# Altium footprint library 12_way.PcbLib: 10 footprints
Each footprint in its own frame and in the unit in brackets; x right, y up, seen from the top. Pads: shape width x height; smd on the part's side, far side on the other; paste and mask are expansions set on the pad; w line width, h text height; cw(c..) or ccw(c..) is an arc to the next point about the centre after c.
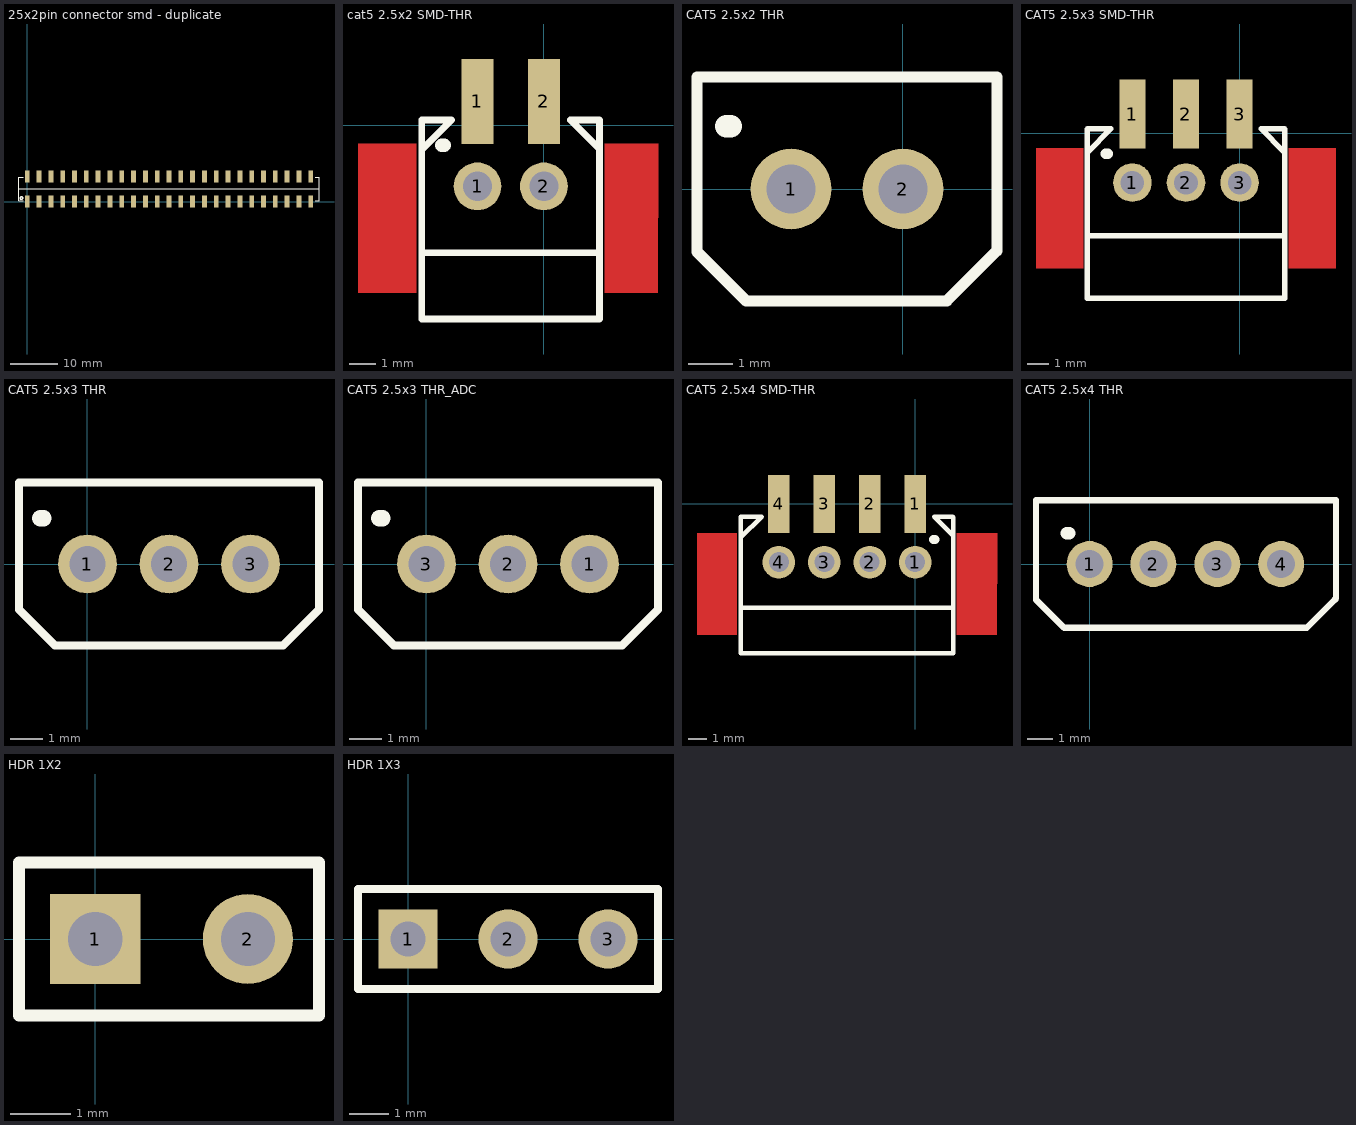
[diagram p0: the footprints below, top view; thin cyan lines are the x and y axes]

## 25x2pin connector smd - duplicate [mm]
height 7.5
pads (50):
  rect 1.02x2.5 smd: 1(0,0) 2(0,5.3) 3(2.5,0) 4(2.5,5.3) 5(5,0) 6(5,5.3) 7(7.5,0) 8(7.5,5.3) 9(10,0) 10(10,5.3) 11(12.5,0) 12(12.5,5.3) 13(15,0) 14(15,5.3) 15(17.5,0) 16(17.5,5.3) 17(20,0) 18(20,5.3) 19(22.5,0) 20(22.5,5.3) 21(25,0) 22(25,5.3) 23(27.5,0) 24(27.5,5.3) 25(30,0) 26(30,5.3) 27(32.5,0) 28(32.5,5.3) 29(35,0) 30(35,5.3) 31(37.5,0) 32(37.5,5.3) 33(40,0) 34(40,5.3) 35(42.5,0) 36(42.5,5.3) 37(45,0) 38(45,5.3) 39(47.5,0) 40(47.5,5.3) 41(50,0) 42(50,5.3) 43(52.5,0) 44(52.5,5.3) 45(55,0) 46(55,5.3) 47(57.5,0) 48(57.5,5.3) 49(60,0) 50(60,5.3)
Top Overlay:
  circle w0.3: c-1.25,0.725 r0.269
  lines w0.254: -1.75,3.8 -1.75,2.65 61.75,2.65 ; -0.9,0.15 -1.75,0.15 -1.75,1.25 -1.75,4.05 -1.75,5.15 -0.9,5.15 ; 60.95,0.15 61.75,0.15 61.75,1.25 61.75,4.05 61.75,5.15 60.95,5.15
3D body: height 7.5, standoff 0, extent -1.8,0.1 61.8,5.2

## cat5 2.5x2 SMD-THR [mm] "2pads"
pads (4):
  rect 1.2x3.2 smd: 1(-2.5,0.9) 2(0,0.9)
  round 1.8 hole 1.1: 1(-2.498,-2.3) 2(0.002,-2.3)
Top Layer:
  region: -7,-6.3 -4.8,-6.3 -4.8,-0.7 -7,-0.7
  region: 2.3,-6.3 4.3,-6.3 4.3,-0.7 2.3,-0.7
Top Overlay:
  lines w0.254: 2.1,-4.8 2.1,-4 ; 2.1,0.2 2.1,0.2 ; 2.1,0.2 0.998,0.2 2.098,-0.9 2.098,-4.8 -4.602,-4.8 -4.602,-0.925 -3.477,0.2 -4.6,0.2 -4.6,-7.3 2.1,-7.3 2.1,0.2
  lines w0.5: -3.85,-0.75 -3.75,-0.75
3D body: height 5.01, standoff -0.69, extent -6.575,-7.45 4.025,2.05

## CAT5 2.5x2 THR [mm]
height 7.5
pads (2):
  round 1.8 hole 1.1: 1(-2.5,0) 2(0,0)
Top Overlay:
  lines w0.254: -4.6,-1.4 -4.6,2.5 2.1,2.5 2.1,-1.375 0.975,-2.5 -3.5,-2.5 -4.6,-1.4
  lines w0.5: -3.95,1.4 -3.85,1.4
3D body: height 7.51, standoff -2.09, extent -4.602,-2.5 2.102,2.5

## CAT5 2.5x3 SMD-THR [mm] "3pads"
pads (6):
  round 1.8 hole 1.1: 1(-5,-2.3) 2(-2.5,-2.3) 3(0,-2.3)
  rect 1.2x3.2 smd: 1(-5,0.9) 2(-2.5,0.9) 3(0,0.9)
Top Layer:
  region: -9.5,-6.3 -7.3,-6.3 -7.3,-6.2 -7.3,-0.7 -9.5,-0.7
  region: 2.3,-6.3 4.5,-6.3 4.5,-0.7 2.3,-0.7
Top Overlay:
  lines w0.254: 2.081,-0.869 1,0.213 2.087,0.213 2.1,0.2 2.1,-7.7 -7.1,-7.7 -7.1,-0.6 -7.1,0.2 -7.087,0.213 -6,0.213 -7.1,-0.887 -7.1,-1.287 -7.1,-4.787 2.1,-4.787 2.1,-2.287 2.1,-0.887
  lines w0.5: -6.25,-0.95 -6.15,-0.95
3D body: height 5.01, standoff -0.69, extent -9.075,-7.475 4.025,2.025

## CAT5 2.5x3 THR [mm] "3 pins"
height 7.5
pads (3):
  round 1.8 hole 1.1: 1(0,0) 2(2.5,0) 3(5,0)
Top Overlay:
  lines w0.254: -2.1,-1.4 -2,-1.5 -1,-2.5 5.7,-2.5 6,-2.5 7.1,-1.4 7.1,-1 7.1,2.5 -2.1,2.5 -2.1,0 -2.1,-1.4
  lines w0.5: -1.45,1.4 -1.35,1.4
3D body: height 7.51, standoff -2.09, extent -2.102,-2.5 7.102,2.5

## CAT5 2.5x3 THR_ADC [mm]
height 7.5
pads (3):
  round 1.8 hole 1.1: 1(5,0) 2(2.5,0) 3(0,0)
Top Overlay:
  lines w0.254: -2.1,-1.4 -2,-1.5 -1,-2.5 5.7,-2.5 6,-2.5 7.1,-1.4 7.1,-1 7.1,2.5 -2.1,2.5 -2.1,0 -2.1,-1.4
  lines w0.5: -1.45,1.4 -1.35,1.4
3D body: height 7.51, standoff -2.09, extent -2.102,-2.5 7.102,2.5

## CAT5 2.5x4 SMD-THR [mm] "4pad"
pads (8):
  round 1.8 hole 1.1: 1(0,-3.2) 2(-2.5,-3.2) 3(-5,-3.2) 4(-7.5,-3.2)
  rect 1.2x3.2 smd: 1(0,0) 2(-2.5,0) 3(-5,0) 4(-7.5,0)
Top Layer:
  region: 2.3,-7.2 4.5,-7.2 4.5,-1.6 2.3,-1.6
  region: -12,-7.2 -9.8,-7.2 -9.8,-1.6 -12,-1.6
Top Overlay:
  lines w0.254: -9.6,-5.7 -9.6,-1.85 ; -9.588,-1.837 -8.45,-0.7 -9.6,-0.7 ; -9.55,-5.7 2,-5.7 ; 2.102,-1.752 1.05,-0.7 2.075,-0.7 ; -9.6,-0.7 -9.6,-0.7 ; -9.6,-0.7 -9.6,-1.5 -9.6,-8.2 2.1,-8.2 2.1,-0.725 2.075,-0.7 ; 2.075,-0.7 2.075,-0.7
  lines w0.5: 1,-1.95 1.1,-1.95
3D body: height 5.01, standoff -0.69, extent -11.55,-8.45 4.05,1.05

## CAT5 2.5x4 THR [mm] "4 pins"
height 7.5
pads (4):
  round 1.8 hole 1.1: 1(0,0) 2(2.5,0) 3(5,0) 4(7.5,0)
Top Overlay:
  lines w0.254: 8.5,-2.5 -1,-2.5 -2,-1.5 -2.1,-1.4 -2.1,0 -2.1,2.5 9.65,2.5 9.65,-1.35 9.5,-1.5 ; 8.5,-2.5 9.5,-1.5 ; 8.5,-2.5 9.5,-1.5 ; 9.5,-1.5 9.5,-1.5
  lines w0.5: -0.9,1.2 -0.8,1.2
3D body: height 7.51, standoff -2.09, extent -2.077,-2.563 9.627,2.438

## HDR 1X2 [mm]
pads (2):
  rect 1.5x1.5 hole 0.9: 1(0,0)
  round 1.5 hole 0.9: 2(2.54,0)
Top Overlay:
  lines w0.2: -1.27,-1.27 -1.27,1.27 3.725,1.27 3.725,-1.27 -1.27,-1.27
3D body: height 8.39, standoff -3.8, extent -1.31,-1.27 3.77,1.27

## HDR 1X3 [mm] "Connector; Header; 3 Position"
pads (3):
  rect 1.5x1.5 hole 0.9: 1(0,0)
  round 1.5 hole 0.9: 2(2.54,0) 3(5.08,0)
Top Overlay:
  lines w0.2: -1.27,-1.27 -1.27,1.27 6.35,1.27 6.35,-1.27 -1.27,-1.27
3D body: height 8.39, standoff -3.8, extent -1.27,-1.27 6.35,1.27